# Altium footprint library TG21_TX_Ma tran phim.PcbLib: 12 footprints
Each footprint in its own frame and in the unit in brackets; x right, y up, seen from the top. Pads: shape width x height; smd on the part's side, far side on the other; paste and mask are expansions set on the pad; w line width, h text height; cw(c..) or ccw(c..) is an arc to the next point about the centre after c.
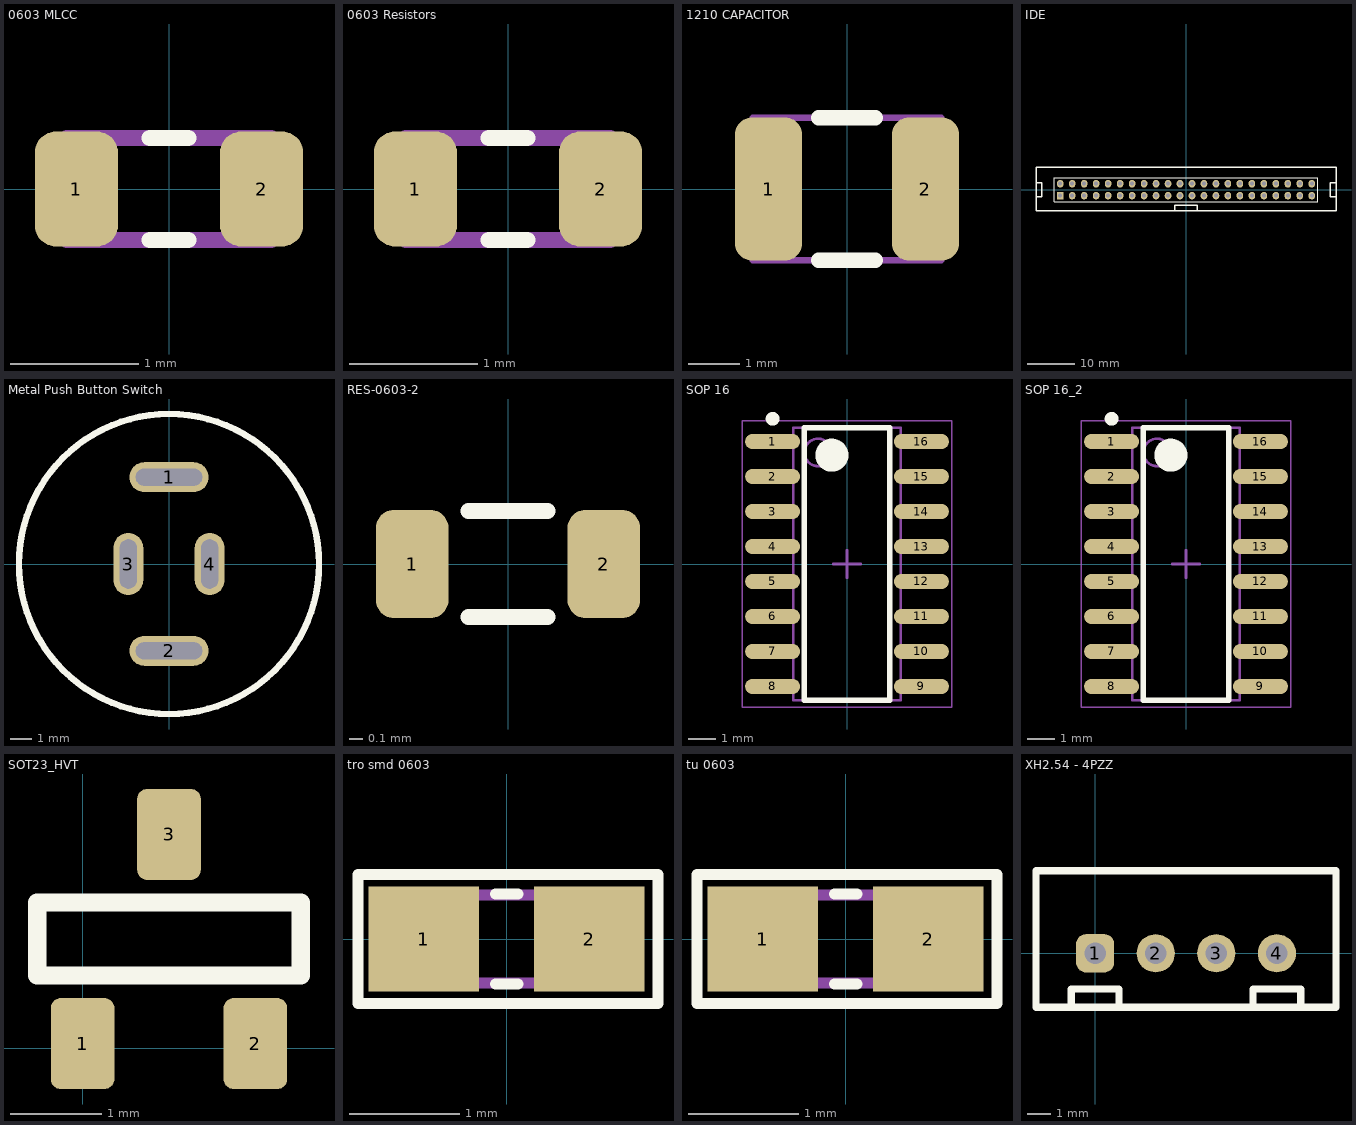
[diagram p0: the footprints below, top view; thin cyan lines are the x and y axes]

## 0603 MLCC [mm]
pads (2):
  rrect50% 0.65x0.9 smd paste+0 mask+0.102: 1(-0.725,0) 2(0.725,0)
Top Overlay:
  lines w0.127: -0.15,-0.4 0.15,-0.4 ; -0.15,0.4 0.15,0.4
Mechanical 13:
  lines w0.127: -0.8,-0.4 0.8,-0.4 0.8,0.4 -0.8,0.4 -0.8,-0.4
3D body "step_temp.STEP": height 0.87, standoff 0, extent -0.8,-0.4 0.8,0.4

## 0603 Resistors [mm]
pads (2):
  rrect50% 0.65x0.9 smd paste+0 mask+0.102: 1(-0.725,0) 2(0.725,0)
Top Overlay:
  lines w0.127: -0.15,-0.4 0.15,-0.4 ; -0.15,0.4 0.15,0.4
Mechanical 13:
  lines w0.127: -0.8,-0.4 -0.8,0.4 0.8,0.4 0.8,-0.4 -0.8,-0.4
3D body "step_temp.STEP": height 0.45, standoff 0, extent -0.8,-0.4 0.8,0.4

## 1210 CAPACITOR [mm]
pads (2):
  rrect50% 1.32x2.81 smd paste+0 mask+0.102: 1(-1.542,0) 2(1.542,0)
Top Overlay:
  lines w0.3: -0.56,-1.4 0.56,-1.4 ; -0.56,1.4 0.56,1.4
Mechanical 13:
  lines w0.127: -1.85,-1.4 1.85,-1.4 1.85,1.4 -1.85,1.4 -1.85,-1.4
3D body "step_temp.STEP": height 2.79, standoff 0, extent -1.65,-1.25 1.65,1.25

## IDE [mm]
pads (44):
  rect 1.4x1.6 hole 0.85: 1(-26.67,-1.27)
  oval 1.4x1.6 hole 0.85: 2(-26.67,1.27) 3(-24.13,-1.27) 4(-24.13,1.27) 5(-21.59,-1.27) 6(-21.59,1.27) 7(-19.05,-1.27) 8(-19.05,1.27) 9(-16.51,-1.27) 10(-16.51,1.27) 11(-13.97,-1.27) 12(-13.97,1.27) 13(-11.43,-1.27) 14(-11.43,1.27) 15(-8.89,-1.27) 16(-8.89,1.27) 17(-6.35,-1.27) 18(-6.35,1.27) 19(-3.81,-1.27) 20(-3.81,1.27) 21(-1.27,-1.27) 22(-1.27,1.27) 23(1.27,-1.27) 24(1.27,1.27) 25(3.81,-1.27) 26(3.81,1.27) 27(6.35,-1.27) 28(6.35,1.27) 29(8.89,-1.27) 30(8.89,1.27) 31(11.43,-1.27) 32(11.43,1.27) 33(13.97,-1.27) 34(13.97,1.27) 35(16.51,-1.27) 36(16.51,1.27) 37(19.05,-1.27) 38(19.05,1.27) 39(21.59,-1.27) 40(21.59,1.27) 41(24.13,-1.27) 42(24.13,1.27) 43(26.67,-1.27) 44(26.67,1.27)
Top Overlay:
  lines w0.2: -27.94,-2.54 -27.94,2.54 27.94,2.54 27.94,-2.54 -27.94,-2.54
  lines w0.3: -31.8,-1.5 -30.6,-1.5 -30.6,1.5 -31.8,1.5 ; -2.4,-4.5 -2.4,-3.3 2.4,-3.3 2.4,-4.5 ; 31.8,-1.5 30.6,-1.5 30.6,1.5 31.8,1.5 ; -31.8,-4.5 31.8,-4.5 31.8,4.8 -31.8,4.8 -31.8,-4.5
3D body "User Library-BH_44_V.STEP": height 8.9, standoff -3.2, extent -31.75,-4.45 31.75,4.65

## Metal Push Button Switch [mm]
pads (4):
  oval 3.7x1.4 hole 0.8 slot 3.1 at 0 deg: 1(0,4.05) 2(0,-4.05)
  oval 1.4x2.9 hole 0.8 slot 2.3 at 90 deg: 3(-1.9,0) 4(1.9,0)
Top Overlay:
  circle w0.3: c0,0 r7

## RES-0603-2 [mm]
pads (2):
  rrect50% 0.55x0.82 smd: 1(-0.725,0) 2(0.725,0)
Top Overlay:
  lines w0.12: -0.3,-0.4 0.3,-0.4 ; -0.3,0.4 0.3,0.4
3D body "ERJ-U03F6800V.STEP": height 0.45, standoff 0, extent -0.8,-0.4 0.8,0.4

## SOP 16 [mm]
pads (16):
  oval 2x0.55 smd: 1(-2.7,4.445) 2(-2.7,3.175) 3(-2.7,1.905) 4(-2.7,0.635) 5(-2.7,-0.635) 6(-2.7,-1.905) 7(-2.7,-3.175) 8(-2.7,-4.445) 9(2.7,-4.445) 10(2.7,-3.175) 11(2.7,-1.905) 12(2.7,-0.635) 13(2.7,0.635) 14(2.7,1.905) 15(2.7,3.175) 16(2.7,4.445)
Top Overlay:
  circle w0.6: c-0.55,3.95 r0.3
  circle w0.25: c-2.7,5.27 r0.125
  lines w0.2: -1.55,-4.95 1.55,-4.95 1.55,4.95 -1.55,4.95 -1.55,-4.95
Mechanical 13:
  circle w0.1: c-1.05,4.05 r0.5
  lines w0.1: -1.95,-4.95 1.95,-4.95 1.95,4.95 -1.95,4.95 -1.95,-4.95
Mechanical 15:
  lines w0.05: -3.81,-5.2 3.81,-5.2 3.81,5.2 -3.81,5.2 -3.81,-5.2
  lines w0.1: -0.5,0 0.5,0 ; 0,-0.5 0,0.5
3D body "User Library-SOIC-16-1.step": height 1.4, standoff 0, extent -3,-4.95 3,4.95

## SOP 16_2 [mm]
pads (16):
  oval 2x0.55 smd: 1(-2.7,4.445) 2(-2.7,3.175) 3(-2.7,1.905) 4(-2.7,0.635) 5(-2.7,-0.635) 6(-2.7,-1.905) 7(-2.7,-3.175) 8(-2.7,-4.445) 9(2.7,-4.445) 10(2.7,-3.175) 11(2.7,-1.905) 12(2.7,-0.635) 13(2.7,0.635) 14(2.7,1.905) 15(2.7,3.175) 16(2.7,4.445)
Top Overlay:
  circle w0.25: c-2.7,5.27 r0.125
  circle w0.6: c-0.55,3.95 r0.3
  lines w0.2: -1.55,-4.95 -1.55,4.95 1.55,4.95 1.55,-4.95 -1.55,-4.95
Mechanical 13:
  circle w0.1: c-1.05,4.05 r0.5
  lines w0.1: -1.95,-4.95 -1.95,4.95 1.95,4.95 1.95,-4.95 -1.95,-4.95
Mechanical 15:
  lines w0.05: -3.81,-5.2 -3.81,5.2 3.81,5.2 3.81,-5.2 -3.81,-5.2
  lines w0.1: -0.5,0 0.5,0 ; 0,-0.5 0,0.5
3D body "User Library-SOIC-16-1.step": height 1.4, standoff 0, extent -3,-4.95 3,4.95

## SOT23_HVT [mm]
pads (3):
  rrect30% 0.7x1 smd: 1(0,0.05) 2(1.9,0.05) 3(0.95,2.35)
Top Overlay:
  lines w0.2: -0.5,0.8 2.4,0.8 2.4,1.6 -0.5,1.6 -0.5,0.8
3D body "SOT23.STEP": height 1, standoff 0, extent -0.5,0 2.4,2.4

## tro smd 0603 [mm]
pads (2):
  rect 1x0.95 smd mask+0.076: 1(-0.75,0) 2(0.75,0)
Top Overlay:
  lines w0.102: -0.102,-0.406 0.102,-0.406 ; -0.102,0.406 0.102,0.406 ; -1.346,-0.584 -1.346,0.584 1.372,0.584 1.372,-0.584 -1.346,-0.584
Mechanical 13:
  lines w0.1: -0.8,-0.4 -0.8,0.4 0.8,0.4 0.8,-0.4 -0.8,-0.4
3D body "User Library-R SMD 0603.STEP": height 0.44, standoff -0.01, extent -0.82,-0.418 0.82,0.432

## tu 0603 [mm]
pads (2):
  rect 1x0.95 smd mask+0.076: 1(-0.75,0) 2(0.75,0)
Top Overlay:
  lines w0.102: -0.102,-0.406 0.102,-0.406 ; -0.102,0.406 0.102,0.406 ; -1.346,-0.584 1.372,-0.584 1.372,0.584 -1.346,0.584 -1.346,-0.584
Mechanical 13:
  lines w0.1: -0.8,-0.4 0.8,-0.4 0.8,0.4 -0.8,0.4 -0.8,-0.4
3D body "User Library-CAPC1608X09.step": height 0.9, standoff 0, extent -0.8,-0.4 0.8,0.4

## XH2.54 - 4PZZ [mm]
pads (4):
  rrect50% 1.6x1.6 hole 0.9: 1(0,0)
  round 1.6 hole 0.9: 2(2.54,0) 3(5.08,0) 4(7.62,0)
Top Overlay:
  lines w0.3: -1,-2.2 -1,-1.5 -0.95,-1.5 0.95,-1.5 1,-1.5 1,-2.2 ; 6.62,-2.2 6.62,-1.5 ; 6.67,-1.5 8.57,-1.5 ; 8.62,-2.2 8.62,-1.5 ; -2.48,-2.26 -2.48,3.46 10.1,3.46 10.1,-2.26 -2.48,-2.26
3D body "XH2.54M-4.STEP": height 6.91, standoff -1.82, extent -2.48,-2.26 10.1,3.48